# Altium schematic symbol library Harness.SchLib: 41 symbols
Pins are listed as number, name and electrical type; pins without a type are passive.

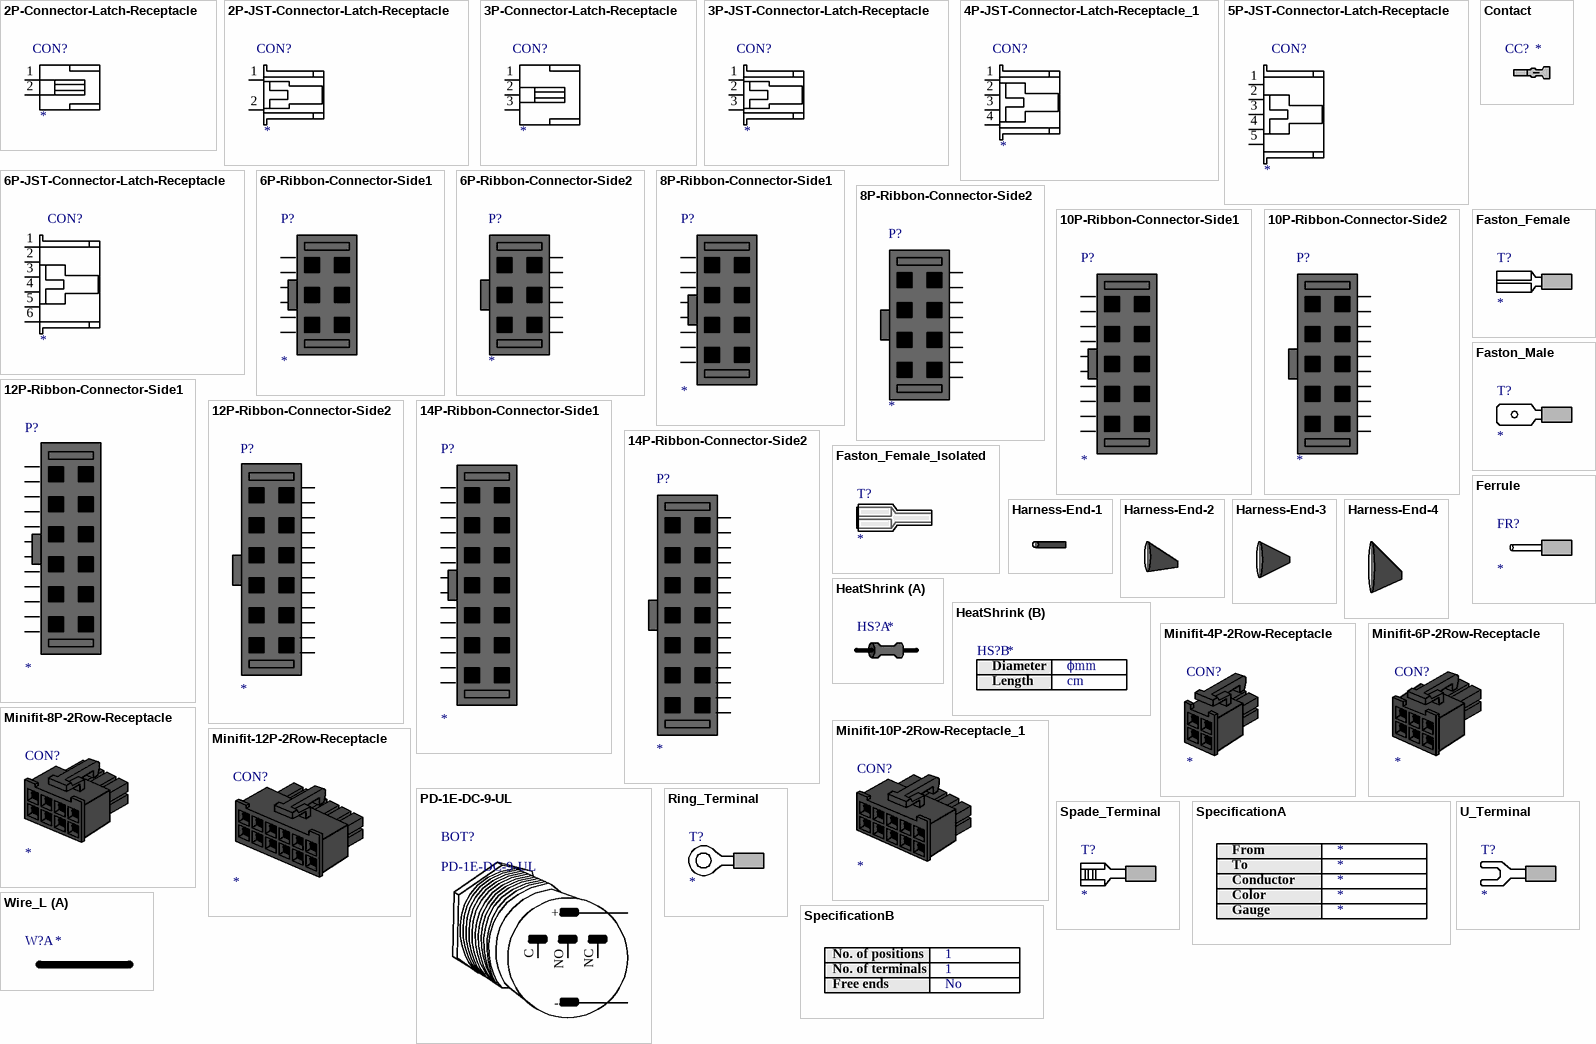
[diagram p0: symbols 2P-Connector-Latch-Receptacle to Wire_L]

## 2P-Connector-Latch-Receptacle
designator CON?  (mechanical)
2 Position Connector Receptacle Latch Lock Fastening Type; Value: *; Supplier Part Number 1: *; Supplier 1: *
pins: 1, 2

## 2P-JST-Connector-Latch-Receptacle
designator CON?  (mechanical)
2 Position Connector Receptacle Latch Lock Fastening Type; Value: *; Supplier Part Number 1: *; Supplier 1: *
pins: 1, 2

## 3P-Connector-Latch-Receptacle
designator CON?  (mechanical)
3 Position Connector Receptacle Latch Lock Fastening Type; Value: *; Supplier Part Number 1: *; Supplier 1: *
pins: 1, 2, 3

## 3P-JST-Connector-Latch-Receptacle
designator CON?  (mechanical)
3 Position Connector Receptacle Latch Lock Fastening Type; Value: *; Supplier Part Number 1: *; Supplier 1: *
pins: 1, 2, 3

## 4P-JST-Connector-Latch-Receptacle_1
designator CON?  (mechanical)
4 Position Connector Receptacle Latch Lock Fastening Type; Value: *; Supplier Part Number 1: *; Supplier 1: *
pins: 1, 2, 3, 4

## 5P-JST-Connector-Latch-Receptacle
designator CON?  (mechanical)
5 Position Connector Receptacle Latch Lock Fastening Type; Value: *; Supplier Part Number 1: *; Supplier 1: *
pins: 1, 2, 3, 4, 5

## 6P-JST-Connector-Latch-Receptacle
designator CON?  (mechanical)
6 Position Connector Receptacle Latch Lock Fastening Type; Value: *; Supplier Part Number 1: *; Supplier 1: *
pins: 1, 2, 3, 4, 5, 6

## 6P-Ribbon-Connector-Side1
designator P?  (mechanical)
10P ribbon connector; Value: *; Supplier Part Number 1: *; Supplier 1: *
pins: 1, 2, 3, 4, 5, 6

## 6P-Ribbon-Connector-Side2
designator P?  (mechanical)
10P ribbon connector; Value: *; Supplier Part Number 1: *; Supplier 1: *
pins: 1, 2, 3, 4, 5, 6

## 8P-Ribbon-Connector-Side1
designator P?  (mechanical)
10P ribbon connector; Value: *; Supplier Part Number 1: *; Supplier 1: *
pins: 1, 2, 3, 4, 5, 6, 7, 8

## 8P-Ribbon-Connector-Side2
designator P?  (mechanical)
10P ribbon connector; Value: *; Supplier Part Number 1: *; Supplier 1: *
pins: 1, 2, 3, 4, 5, 6, 7, 8

## 10P-Ribbon-Connector-Side1
designator P?  (mechanical)
10P ribbon connector; Value: *; Supplier Part Number 1: *; Supplier 1: *
pins: 1, 2, 3, 4, 5, 6, 7, 8, 9, 10

## 10P-Ribbon-Connector-Side2
designator P?  (mechanical)
10P ribbon connector; Value: *; Supplier Part Number 1: *; Supplier 1: *
pins: 1, 2, 3, 4, 5, 6, 7, 8, 9, 10

## 12P-Ribbon-Connector-Side1
designator P?  (mechanical)
12P ribbon connector; Value: *; Supplier Part Number 1: *; Supplier 1: *
pins: 1, 2, 3, 4, 5, 6, 7, 8, 9, 10, 11, 12

## 12P-Ribbon-Connector-Side2
designator P?  (mechanical)
12P ribbon connector; Value: *; Supplier Part Number 1: *; Supplier 1: *
pins: 1, 2, 3, 4, 5, 6, 7, 8, 9, 10, 11, 12

## 14P-Ribbon-Connector-Side1
designator P?  (mechanical)
14P ribbon connector; Value: *; Supplier Part Number 1: *; Supplier 1: *
pins: 1, 2, 3, 4, 5, 6, 7, 8, 9, 10, 11, 12, 13, 14

## 14P-Ribbon-Connector-Side2
designator P?  (mechanical)
14P ribbon connector; Value: *; Supplier Part Number 1: *; Supplier 1: *
pins: 1, 2, 3, 4, 5, 6, 7, 8, 9, 10, 11, 12, 13, 14

## Contact
designator CC?  (mechanical)
Connector-Contact; Supplier 1: *; Supplier Part Number 1: *; Value: *
pins: 1

## Faston_Female
designator T?  (mechanical)
Terminal Faston Female; Supplier 1: *; Supplier Part Number 1: *; Value: *
pins: 1

## Faston_Female_Isolated
designator T?  (mechanical)
Terminal Faston Female with isolation; Supplier 1: *; Supplier Part Number 1: *; Value: *
pins: 1

## Faston_Male
designator T?  (mechanical)
Terminal Faston Male; Supplier 1: *; Supplier Part Number 1: *; Value: *
pins: 1

## Ferrule
designator FR?  (mechanical)
Ferrule terminal/connector; Supplier 1: *; Supplier Part Number 1: *; Value: *
pins: 1

## Harness-End-1
designator end?  (value not drawn)  (graphical)
pins: 11, 11

## Harness-End-2
designator end?  (value not drawn)  (graphical)
pins: 11, 11, 11

## Harness-End-3
designator end?  (value not drawn)  (graphical)
pins: 11, 11, 11, 11

## Harness-End-4
designator end?  (value not drawn)  (graphical)
pins: 11, 11, 11, 11, 11

## HeatShrink
designator HS?  (mechanical)
Heat Shrink; Supplier 1: *; Supplier Part Number 1: *; Value: *; Diameter: ϕmm; Length: cm
part B text: Diameter; Length

## Minifit-4P-2Row-Receptacle
designator CON?  (mechanical)
4 Position Connector Receptacle Latch Lock Fastening Type; Value: *; Supplier Part Number 1: *; Supplier 1: *
pins: 1, 2, 3, 4

## Minifit-6P-2Row-Receptacle
designator CON?  (mechanical)
6 Position Connector Receptacle Latch Lock Fastening Type; Value: *; Supplier Part Number 1: *; Supplier 1: *
pins: 1, 2, 3, 4, 5, 6

## Minifit-8P-2Row-Receptacle
designator CON?  (mechanical)
8 Position Connector Receptacle Latch Lock Fastening Type; Value: *; Supplier Part Number 1: *; Supplier 1: *
pins: 1, 2, 3, 4, 5, 6, 7, 8

## Minifit-10P-2Row-Receptacle_1
designator CON?  (mechanical)
10 Position Connector Receptacle Latch Lock Fastening Type; Value: *; Supplier Part Number 1: *; Supplier 1: *
pins: 1, 2, 3, 4, 5, 6, 7, 8, 9, 10

## Minifit-12P-2Row-Receptacle
designator CON?  (mechanical)
12 Position Connector Receptacle Latch Lock Fastening Type; Value: *; Supplier Part Number 1: *; Supplier 1: *
pins: 1, 2, 3, 4, 5, 6, 7, 8, 9, 10, 11, 12

## PD-1E-DC-9-UL
designator BOT?  (mechanical)
ANTI VANDAL SPDT ON-(ON) - IP67; Supplier 1: Digi-key; Supplier Part Number 1: 2299-PD-1E-DC-9-UL-ND; Value: PD-1E-DC-9-UL
pins: 1 +, 2 -, C, NC, NO

## Ring_Terminal
designator T?  (mechanical)
Terminal Ring-Type; Supplier 1: *; Supplier Part Number 1: *; Value: *
pins: 1

## Spade_Terminal
designator T?  (mechanical)
Terminal Spade-Type; Supplier 1: *; Supplier Part Number 1: *; Value: *
pins: 1

## SpecificationA
designator spec?  (value not drawn)  (graphical)
From: *; pTo: *; Conductor: *; Color: *; Gauge: *
text: From; To; Conductor; Color; Gauge

## SpecificationB
designator spec?  (value not drawn)  (graphical)
nPositions: 1; FreeEnds: No; nTerminals: 1
text: No. of positions; No. of terminals; Free ends

## U_Terminal
designator T?  (mechanical)
Crimp Terminal U-Type; Supplier 1: *; Supplier Part Number 1: *; Value: *
pins: 1

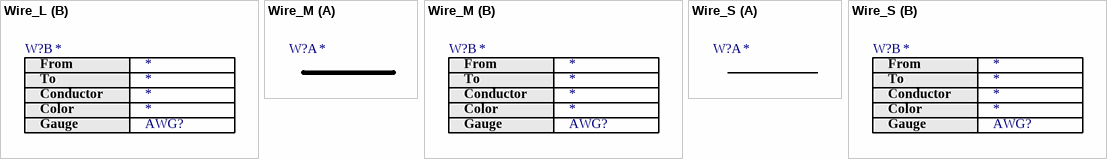
[diagram p1: symbols Wire_L to Wire_S]

## Wire_L
designator W?  (mechanical)
Wire; Gauge: AWG?; Supplier 1: *; Supplier Part Number 1: *; Value: *; From: *; Conductor: *; pTo: *; Color: *
part A pins: 1, 2
part B text: From; To; Conductor; Color; Gauge

## Wire_M
designator W?  (mechanical)
Wire; Gauge: AWG?; Supplier 1: *; Supplier Part Number 1: *; Value: *; From: *; Conductor: *; pTo: *; Color: *
part A pins: 1, 2
part B text: From; To; Conductor; Color; Gauge

## Wire_S
designator W?  (mechanical)
Wire; Gauge: AWG?; Supplier 1: *; Supplier Part Number 1: *; Value: *; From: *; Conductor: *; pTo: *; Color: *
part A pins: 1, 2
part B text: From; To; Conductor; Color; Gauge